# EAGLE library part JS203011CQN (library ww_devkit)
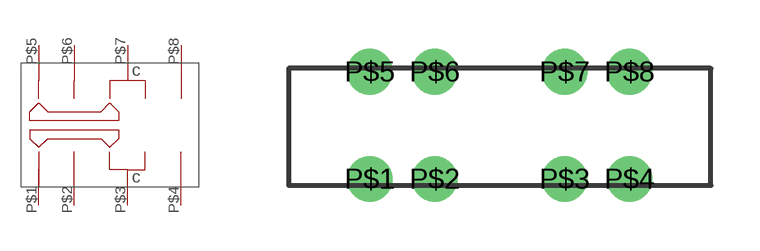
[diagram p2: symbol with the pads of JS203011CQN; footprint JS203011CQN]

Designator prefix -

## JS203011CQN  [JS203011CQN]
P$1  P$1
P$2  P$2
P$3  P$3
P$4  P$4
P$5  P$5
P$6  P$6
P$7  P$7
P$8  P$8

## Footprint JS203011CQN (pad centres in mm)
drill 0.9: P$1 -4,-1.5; P$2 -2,-1.5; P$3 2,-1.5; P$4 4,-1.5; P$5 -4,1.8; P$6 -2,1.8; P$7 2,1.8; P$8 4,1.8